# Altium schematic symbol library Schlib1.SchLib: 5 symbols
Pins are listed as number, name and electrical type; pins without a type are passive.

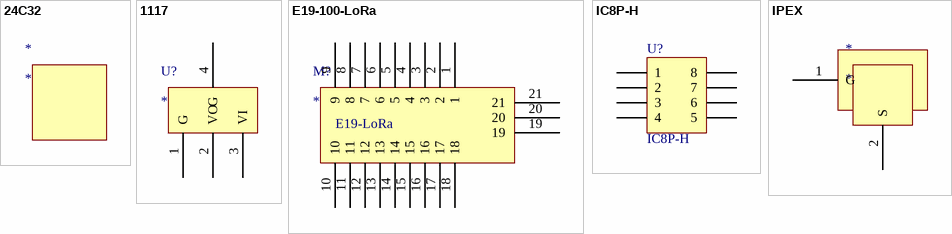
[diagram p0: symbols 24C32 to IPEX]

## 24C32
designator *

## 1117
designator U?
footprint SOT223
pins: 1 G, 2 VO, 3 VI, 4 G

## E19-100-LoRa
designator M?
footprint E19-LoRa
pins: 1, 2, 3, 4, 5, 6, 7, 8, 9, 10, 11, 12, 13, 14, 15, 16, 17, 18, 19, 20, 21
text: E19-LoRa

## IC8P-H
designator U?
LatestRevisionDate: 17-Jul-2002; LatestRevisionNote: Re-released for DXP Platform.; Publisher: Altium Limited
footprint SO-8H
signal-integrity model Connector
pins: 1, 2, 3, 4, 5, 6, 7, 8

## IPEX
designator *
footprint IPEX
pins: 1 G, 2 S